# Altium footprint library Zaya PCB Library.PcbLib: 16 footprints
Each footprint in its own frame and in the unit in brackets; x right, y up, seen from the top. Pads: shape width x height; smd on the part's side, far side on the other; paste and mask are expansions set on the pad; w line width, h text height; cw(c..) or ccw(c..) is an arc to the next point about the centre after c.
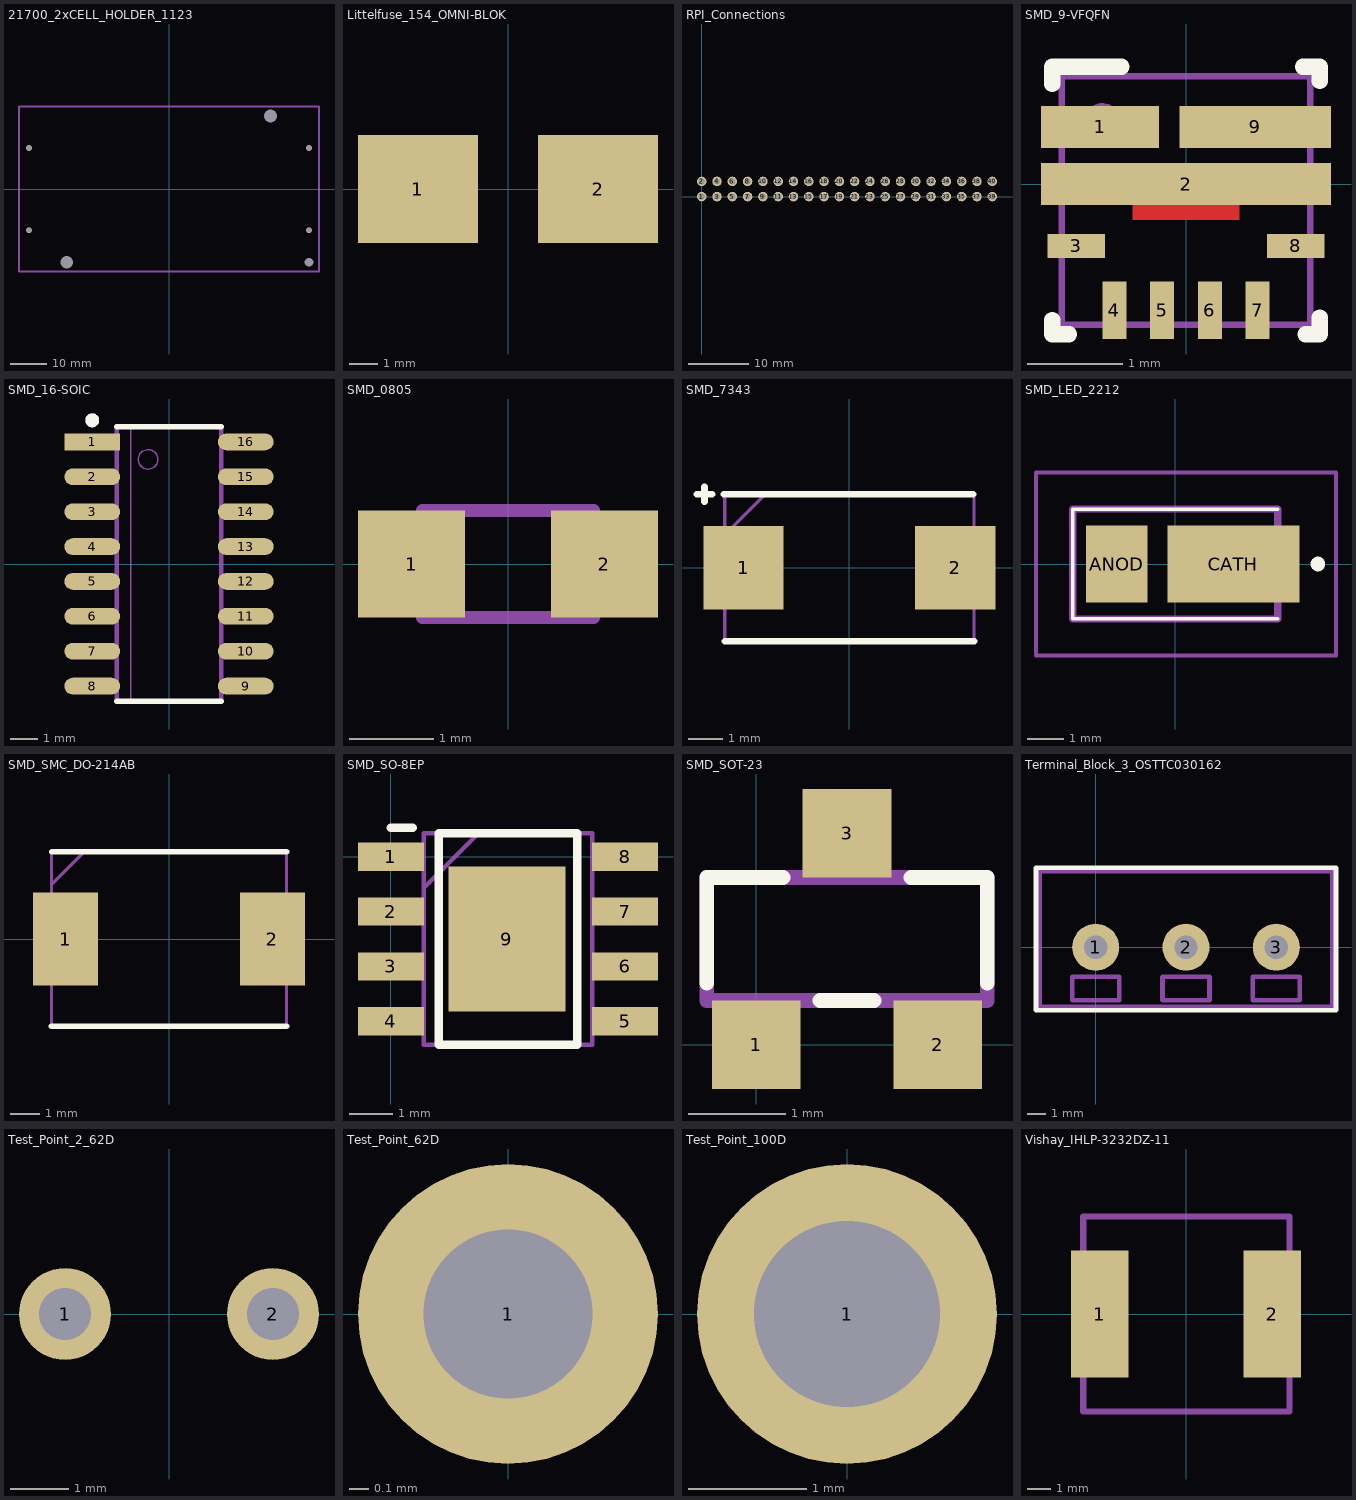
[diagram p0: the footprints below, top view; thin cyan lines are the x and y axes]

## 21700_2xCELL_HOLDER_1123 [mil]
pads (7):
  round 62 hole 52: NEG(-1510,-444) NEG(1510,444) POS(-1510,444) POS(1510,-444)
  round 62 hole 136 unplated: ""(-1105,-788) ""(1095,788)
  round 62 hole 94 unplated: ""(1510,-788)
Mechanical 3:
  lines w20: -1618,-887 -1618,889 1618,889 1618,-887 -1618,-887

## Littelfuse_154_OMNI-BLOK [mil]
pads (2):
  rect 167x150 smd: 1(-125.5,0) 2(125.5,0)

## RPI_Connections [mil]
pads (40):
  round 62 hole 40.16: 1(0,0) 2(0,100) 3(100,0) 4(100,100) 5(200,0) 6(200,100) 7(300,0) 8(300,100) 9(400,0) 10(400,100) 11(500,0) 12(500,100) 13(600,0) 14(600,100) 15(700,0) 16(700,100) 17(800,0) 18(800,100) 19(900,0) 20(900,100) 21(1000,0) 22(1000,100) 23(1100,0) 24(1100,100) 25(1200,0) 26(1200,100) 27(1300,0) 28(1300,100) 29(1400,0) 30(1400,100) 31(1500,0) 32(1500,100) 33(1600,0) 34(1600,100) 35(1700,0) 36(1700,100) 37(1800,0) 38(1800,100) 39(1900,0) 40(1900,100)

## SMD_9-VFQFN [mm]
pads (9):
  rect 1.24x0.44 smd paste-0.607 mask-0.076: 1(-0.9,0.6)
  rect 3.04x0.44 smd paste-1.507 mask-0.076: 2(0,0)
  rect 0.6x0.25 smd paste+0 mask+0.051: 3(-1.15,-0.645) 8(1.15,-0.645)
  rect 0.25x0.6 smd paste+0 mask+0.051: 4(-0.75,-1.32) 5(-0.25,-1.32) 6(0.25,-1.32) 7(0.75,-1.32)
  rect 1.59x0.44 smd paste-0.782 mask-0.076: 9(0.725,0.6)
Top Layer:
  region: -0.557,0.15 -0.557,-0.37 0.557,-0.37 0.557,0.15
Top Overlay:
  lines w0.17: -1.4,-1.42 -1.4,-1.57 -1.225,-1.57 ; -1.4,1.05 -1.4,1.23 -0.675,1.23 ; 1.225,1.23 1.4,1.23 1.4,1.08 ; 1.25,-1.57 1.4,-1.57 1.4,-1.395
Top Paste:
  region: 1.45,-0.15 1.45,0.15 0.71,0.15 0.71,-0.15
  region: -1.45,0.75 -1.45,0.45 -0.5,0.45 -0.5,0.75
  region: 0,0.75 0,0.45 0.65,0.45 0.65,0.75
  region: 0.85,0.75 0.85,0.45 1.45,0.45 1.45,0.75
  region: -1.45,0.15 -1.45,-0.15 -0.71,-0.15 -0.71,0.15
  region: -0.488,0.15 -0.488,-0.3 0.487,-0.3 0.487,0.15
Top Solder:
  region: -0.487,0.08 -0.487,-0.3 0.487,-0.3 0.487,0.08
Mechanical 13:
  circle w0.05: c-0.875,0.68 r0.146
  lines w0.07: -1.3,-1.47 1.3,-1.47 1.3,1.13 -1.3,1.13 -1.3,-1.47

## SMD_16-SOIC [mil]
pads (16):
  rect 80x24 smd: 1(-110,175)
  oval 80x24 smd: 2(-110,125) 3(-110,75) 4(-110,25) 5(-110,-25) 6(-110,-75) 7(-110,-125) 8(-110,-175) 9(110,-175) 10(110,-125) 11(110,-75) 12(110,-25) 13(110,25) 14(110,75) 15(110,125) 16(110,175)
Top Overlay:
  circle w8: c-110,206 r6
  lines w8: -114,206 -106,206 ; -110,202 -110,210 ; -75,-197 75,-197 ; -75,197 75,197
Mechanical 3:
  circle w2: c-30,150 r14
  circle w8: c-110,206 r6
  lines w2: -90,-178 -90,-172 ; -90,-128 -90,-122 ; -90,-78 -90,-72 ; -90,-28 -90,-22 ; -90,22 -90,28 ; -90,72 -90,78 ; -90,122 -90,128 ; -90,172 -90,178 ; -55,-197 -55,197 ; 90,-178 90,-172 ; 90,-128 90,-122 ; 90,-78 90,-72 ; 90,-28 90,-22 ; 90,22 90,28 ; 90,72 90,78 ; 90,122 90,128 ; 90,172 90,178
  lines w4: -100,-183 -100,-167 ; -100,-133 -100,-117 ; -100,-83 -100,-67 ; -100,-33 -100,-17 ; -100,17 -100,33 ; -100,67 -100,83 ; -100,117 -100,133 ; -100,167 -100,183 ; -75,-183 -120,-183 -120,-167 -75,-167 ; -75,-133 -120,-133 -120,-117 -75,-117 ; -75,-83 -120,-83 -120,-67 -75,-67 ; -75,-33 -120,-33 -120,-17 -75,-17 ; -75,17 -120,17 -120,33 -75,33 ; -75,67 -120,67 -120,83 -75,83 ; -75,117 -120,117 -120,133 -75,133 ; -75,167 -120,167 -120,183 -75,183 ; 75,-183 120,-183 120,-167 75,-167 ; 75,-133 120,-133 120,-117 75,-117 ; 75,-83 120,-83 120,-67 75,-67 ; 75,-33 120,-33 120,-17 75,-17 ; 75,17 120,17 120,33 75,33 ; 75,67 120,67 120,83 75,83 ; 75,117 120,117 120,133 75,133 ; 75,167 120,167 120,183 75,183 ; 100,-183 100,-167 ; 100,-133 100,-117 ; 100,-83 100,-67 ; 100,-33 100,-17 ; 100,17 100,33 ; 100,67 100,83 ; 100,117 100,133 ; 100,167 100,183
  lines w6: -75,-197 -75,197 75,197 75,-197 -75,-197
  lines w8: -114,206 -106,206 ; -110,202 -110,210

## SMD_0805 [mil]
pads (2):
  rect 50x50 smd: 1(-45,0) 2(45,0)
Mechanical 3:
  lines w2: -24,-25 -24,25 ; 24,-25 24,25
  lines w6: -40,-25 40,-25 40,25 -40,25 -40,-25

## SMD_7343 [mm]
pads (2):
  rect 2.35x2.45 smd: 1(-3.1,0) 2(3.1,0)
Top Overlay:
  lines w0.2: -4.464,2.159 -4.022,2.159 ; -4.243,1.938 -4.243,2.38 ; -3.669,2.159 3.631,2.159 ; -3.65,-2.15 3.65,-2.15
Mechanical 13:
  lines w0.1: -3.65,0.975 -2.475,2.15 ; -3.65,-2.15 3.65,-2.15 3.65,2.15 -3.65,2.15 -3.65,-2.15
3D body "293D477X96R3D2TE3.stp": height 2.92, standoff 0, extent -3.59,-2.209 3.598,2.207

## SMD_LED_2212 [mm]
pads (2):
  rect 1.68x2.1 smd: ANOD(-1.595,0)
  rect 3.6x2.1 smd: CATH(1.595,0)
Top Overlay:
  lines w0.1: 2.8,-1.5 -2.8,-1.5 -2.8,1.5 2.8,1.5
  lines w0.2: 3.9,-0.1 ccw(c3.9,0) 3.9,0.1 ccw(c3.9,0) 3.9,-0.1
Mechanical 13:
  lines w0.2: -2.8,-1.5 -2.8,1.5 2.8,1.5 2.8,-1.5 -2.8,-1.5
Mechanical 15:
  lines w0.1: -3.8,-2.5 -3.8,2.5 4.395,2.5 4.395,-2.5 -3.8,-2.5

## SMD_SMC_DO-214AB [mm]
pads (2):
  rect 2.2x3.15 smd: 1(-3.5,0) 2(3.5,0)
Top Overlay:
  lines w0.2: -3.97,-2.952 3.97,-2.952 ; -3.965,2.952 3.975,2.952
Mechanical 13:
  lines w0.1: -3.97,1.852 -2.87,2.952 ; -3.97,-2.952 -3.97,2.952 3.97,2.952 3.97,-2.952 -3.97,-2.952
3D body "SL43-E3_57T.stp": height 2.62, standoff 0, extent -3.97,-2.953 3.97,2.953

## SMD_SO-8EP [mm]
pads (9):
  rect 1.525x0.65 smd: 1(0,0) 2(0,-1.27) 3(0,-2.54) 4(0,-3.81) 5(5.424,-3.81) 6(5.424,-2.54) 7(5.424,-1.27) 8(5.424,0)
  rect 2.71x3.35 smd: 9(2.688,-1.905)
Top Overlay:
  lines w0.2: -0.001,0.675 0.507,0.675 ; 1.112,-4.355 1.112,0.545 4.312,0.545 4.312,-4.355 1.112,-4.355
Mechanical 13:
  lines w0.1: 0.762,-0.725 2.032,0.545 ; 0.762,-4.355 0.762,0.545 4.662,0.545 4.662,-4.355 0.762,-4.355
3D body "NE555DR.stp": height 1.75, standoff 0, extent -0.288,-4.355 5.712,0.545

## SMD_SOT-23 [mil]
pads (3):
  rect 36x36 smd: 1(0,0) 2(74,0) 3(37,86)
Top Overlay:
  lines w6: -20,25 -20,68 11,68 ; 26,18 48,18 ; 63,68 94,68 94,25
Mechanical 3:
  lines w2: -9,3 9,3 ; -9,18 -9,-4 9,-4 9,18 ; -4,9 4,9 ; 28,68 28,90 46,90 46,68 ; 28,83 46,83 ; 33,77 41,77 ; 65,3 83,3 ; 65,18 65,-4 83,-4 83,18 ; 70,9 78,9
  lines w6: -20,18 94,18 94,68 -20,68 -20,18

## Terminal_Block_3_OSTTC030162 [mm]
pads (3):
  round 2.6 hole 1.3: 1(0,0) 2(5,0) 3(10,0)
Top Overlay:
  lines w0.254: -3.3,-3.5 -3.1,-3.5 13.3,-3.5 13.3,4.4 -3.3,4.4 -3.3,-3.5
Mechanical 1:
  lines w0.254: -1.3,-2.95 -1.3,-1.65 1.3,-1.65 1.3,-2.95 -1.3,-2.95 ; 3.7,-2.95 6.3,-2.95 6.3,-1.65 3.7,-1.65 3.7,-2.95 ; 8.7,-2.95 8.7,-1.65 11.3,-1.65 11.3,-2.95 8.7,-2.95
Mechanical 3:
  lines w0.254: -3.1,-3.3 13.1,-3.3 13.1,4.2 -3.1,4.2 -3.1,0 -3.1,-3.3

## Test_Point_2_62D [mil]
pads (2):
  round 62 hole 35: 1(-70,0) 2(70,0)

## Test_Point_62D [mil]
pads (1):
  round 62 hole 35: 1(0,0)

## Test_Point_100D [mil]
pads (1):
  round 100 hole 62: 1(0,0)

## Vishay_IHLP-3232DZ-11 [mil]
pads (2):
  rect 95x210 smd: 1(-142.5,0) 2(142.5,0)
Mechanical 3:
  lines w10: -169.5,-161 170.5,-161 170.5,161 -169.5,161 -169.5,-161